# Altium footprint library PcbLib10.PcbLib: 1 footprints
Each footprint in its own frame and in the unit in brackets; x right, y up, seen from the top. Pads: shape width x height; smd on the part's side, far side on the other; paste and mask are expansions set on the pad; w line width, h text height; cw(c..) or ccw(c..) is an arc to the next point about the centre after c.
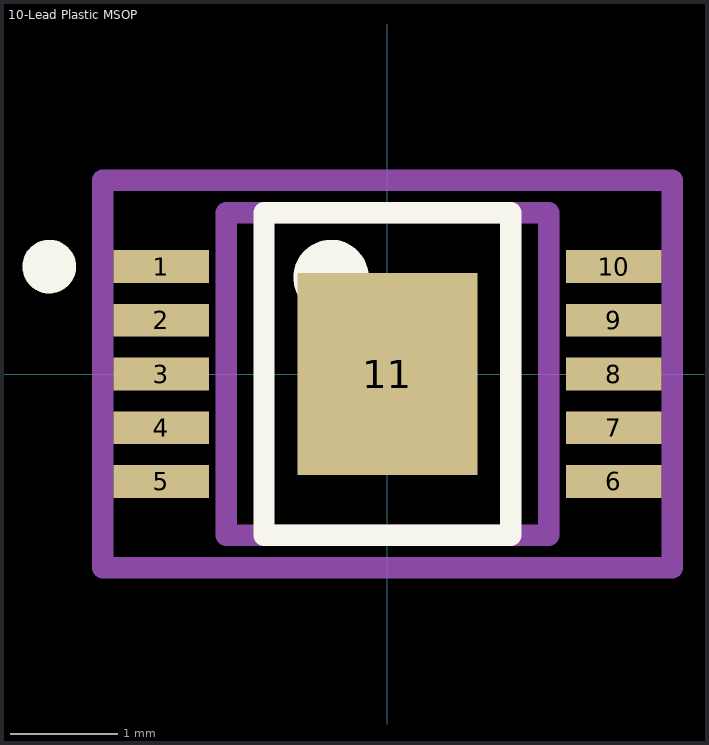
[diagram p0: the footprint, top view; thin cyan lines are the x and y axes]

## 10-Lead Plastic MSOP [mm]
pads (11):
  rect 0.889x0.305 smd paste+0 mask+0: 1(-2.107,1) 2(-2.107,0.5) 3(-2.107,0) 4(-2.107,-0.5) 5(-2.107,-1) 6(2.107,-1) 7(2.107,-0.5) 8(2.107,0) 9(2.107,0.5) 10(2.107,1)
  rect 1.68x1.88 smd paste+0 mask+0: 11(0,0)
Top Overlay:
  circle w0.35: c-0.525,0.9 r0.175
  circle w0.25: c-3.15,1 r0.125
  lines w0.2: -1.15,-1.5 1.15,-1.5 1.15,1.5 -1.15,1.5 -1.15,-1.5
Mechanical 10:
  lines w0.2: -2.652,-1.803 2.652,-1.803 2.652,1.803 -2.652,1.803 -2.652,-1.803
  text ".Designator" at 0,0 h1
Mechanical 12:
  lines w0.2: -1.5,-1.5 1.5,-1.5 1.5,1.5 -1.5,1.5 -1.5,-1.5
Mechanical 15:
  lines w0.1: -0.5,0 0.5,0 ; 0,-0.5 0,0.5
  lines w0.2: -2.652,-1.803 2.652,-1.803 2.652,1.803 -2.652,1.803 -2.652,-1.803
3D body "IC_Linear_Technologies_LT8609EMSE#PBF_eec.STEP": height 0.25, standoff 0, extent -2.652,-1.803 2.652,1.803